# Altium footprint library PB300STQ.PcbLib: 1 footprints
Each footprint in its own frame and in the unit in brackets; x right, y up, seen from the top. Pads: shape width x height; smd on the part's side, far side on the other; paste and mask are expansions set on the pad; w line width, h text height; cw(c..) or ccw(c..) is an arc to the next point about the centre after c.
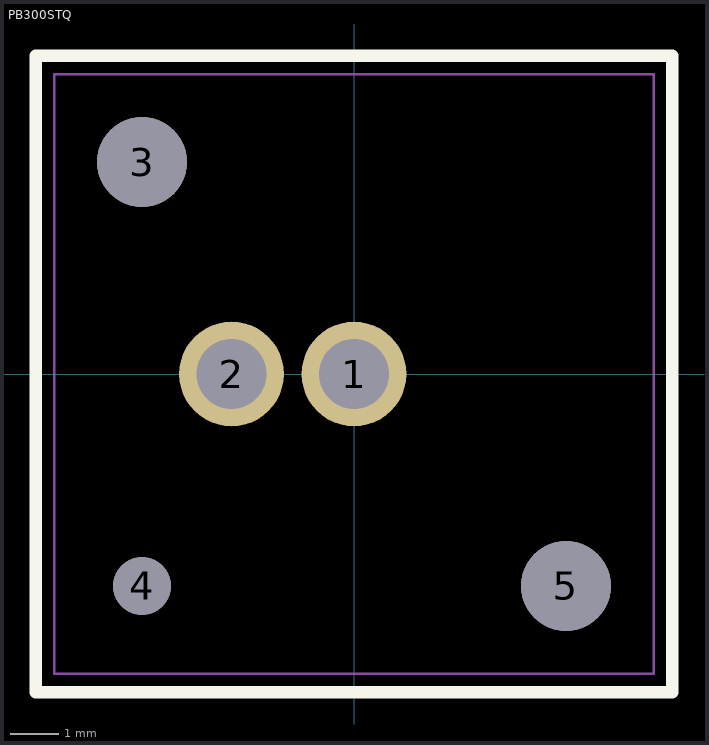
[diagram p0: the footprint, top view; thin cyan lines are the x and y axes]

## PB300STQ [mm] "SWITCH PUSH SPST-NO 0.3A 28V"
pads (5):
  round 2.175 hole 1.45: 1(0,0) 2(-2.54,0)
  round 1.86 hole 1.86 unplated: 3(-4.4,4.4) 5(4.4,-4.4)
  round 1.2 hole 1.2 unplated: 4(-4.4,-4.4)
Top Overlay:
  lines w0.254: -6.604,-6.604 6.604,-6.604 6.604,6.604 -6.604,6.604 -6.604,-6.604
Mechanical 15:
  lines w0.051: -6.223,-6.223 6.223,-6.223 6.223,6.223 -6.223,6.223 -6.223,-6.223
3D body "PB300STQ.stp": height 10.35, standoff -3.25, extent -6.2,-6.2 6.2,6.2